# EAGLE library part LUMILED_2K_TH-30PAD (library lumiled)
Luxeon K2 LED with Thermal-Pads Place a Supply-Pin wit NET-Name 'TH' in schematic to connect all Thermal-Pads witout place the thermal gates. Place in Layout a POLYGON named 'TH' to generate a great thermal copper connected to the thermal pads. Source: 0041 Luxeon K2 on FR4 with open vias.pdf DS60.pdf
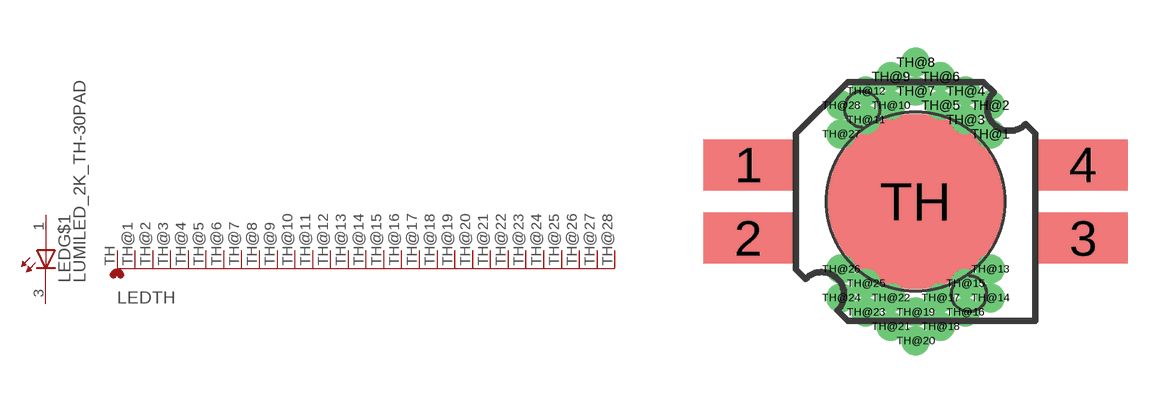
[diagram p0: symbol with the pads of LUMILED_2K_TH-PAD; footprint LUMILED_2K_TH-PAD]

Designator prefix LED; gates G$1=LED-PAD-2 TH=TH-30

## LUMILED_2K_TH-30PAD (MPN: LXK2-PB14-N00; OC_FARNELL: 1225059; OC_NEWARK: 05M0599)  [LUMILED_2K_TH-PAD]
1  G$1:A  pas
2  G$1:A  pas
3  G$1:C  pas
4  G$1:C  pas
TH  TH:TH  pwr
TH@1  TH:TH  pwr
TH@2  TH:TH  pwr
TH@3  TH:TH  pwr
TH@4  TH:TH  pwr
TH@5  TH:TH  pwr
TH@6  TH:TH  pwr
TH@7  TH:TH  pwr
TH@8  TH:TH  pwr
TH@9  TH:TH  pwr
TH@10  TH:TH  pwr
TH@11  TH:TH  pwr
TH@12  TH:TH  pwr
TH@13  TH:TH  pwr
TH@14  TH:TH  pwr
TH@15  TH:TH  pwr
TH@16  TH:TH  pwr
TH@17  TH:TH  pwr
TH@18  TH:TH  pwr
TH@19  TH:TH  pwr
TH@20  TH:TH  pwr
TH@21  TH:TH  pwr
TH@22  TH:TH  pwr
TH@23  TH:TH  pwr
TH@24  TH:TH  pwr
TH@25  TH:TH  pwr
TH@26  TH:TH  pwr
TH@27  TH:TH  pwr
TH@28  TH:TH  pwr

## Footprint LUMILED_2K_TH-PAD (pad centres in mm)
Luxeon K2 LED with Thermal-Pads Place a Supply-Pin wit NET-Name 'TH' in schematic to connect all Thermal-Pads witout place the thermal gates. Place in Layout a POLYGON named 'TH' to generate a great thermal copper connected to the thermal pads. Source: 0041 Luxeon K2 on FR4 with open vias.pdf DS60.pdf
smd 2.8 x 1.6: 1 -5.25,1.15; 2 -5.25,-1.15; 3 5.25,-1.15; 4 5.25,1.15
smd 5.5 x 5.5: TH 0,0
drill 0.4 pad 0.6 round: TH@1 2.338,2.119; TH@2 2.338,3.019; TH@3 1.559,2.569; TH@4 1.559,3.469; TH@5 0.779,3.019; TH@6 0.779,3.919; TH@7 0,3.469; TH@8 0,4.369; TH@9 -0.779,3.919; TH@10 -0.779,3.019; TH@11 -1.559,2.569; TH@12 -1.559,3.469; TH@13 2.338,-2.119; TH@14 2.338,-3.019; TH@15 1.559,-2.569; TH@16 1.559,-3.469; TH@17 0.779,-3.019; TH@18 0.779,-3.919; TH@19 0,-3.469; TH@20 0,-4.369; TH@21 -0.779,-3.919; TH@22 -0.779,-3.019; TH@23 -1.559,-3.469; TH@24 -2.338,-3.019; TH@25 -1.559,-2.569; TH@26 -2.338,-2.119; TH@27 -2.338,2.119; TH@28 -2.338,3.019